# Altium schematic symbol library SCH - INTERFACE - ONSEMI FIN1028.SchLib: 1 symbol
Pins are listed as number, name and electrical type; pins without a type are passive.

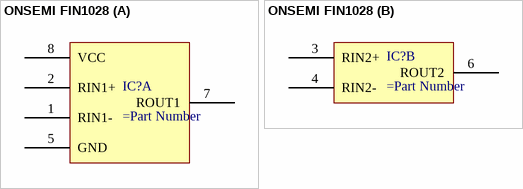
[diagram p0: symbol ONSEMI FIN1028]

## ONSEMI FIN1028
designator IC?
part A pins: 1 RIN1-, 2 RIN1+, 5 GND, 7 ROUT1, 8 VCC
part B pins: 3 RIN2+, 4 RIN2-, 6 ROUT2